# Altium schematic symbol library SCH - ARM Cortex - NXP K32W041AY.SchLib: 1 symbol
Pins are listed as number, name and electrical type; pins without a type are passive.

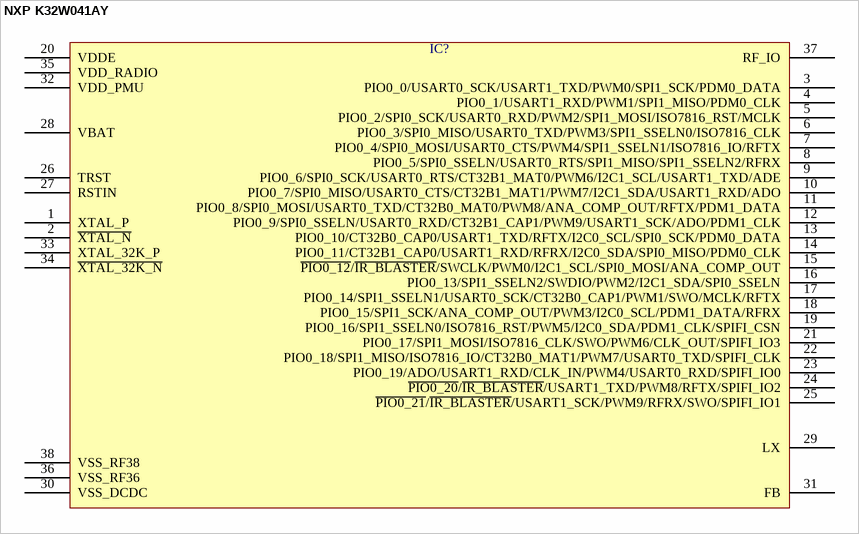
[diagram p0: symbol NXP K32W041AY]

## NXP K32W041AY
designator IC?  (value not drawn)
pins: 1 XTAL_P, 2 ~{XTAL_N}, 3 PIO0_0/USART0_SCK/USART1_TXD/PWM0/SPI1_SCK/PDM0_DATA, 4 PIO0_1/USART1_RXD/PWM1/SPI1_MISO/PDM0_CLK, 5 PIO0_2/SPI0_SCK/USART0_RXD/PWM2/SPI1_MOSI/ISO7816_RST/MCLK, 6 PIO0_3/SPI0_MISO/USART0_TXD/PWM3/SPI1_SSELN0/ISO7816_CLK, 7 PIO0_4/SPI0_MOSI/USART0_CTS/PWM4/SPI1_SSELN1/ISO7816_IO/RFTX, 8 PIO0_5/SPI0_SSELN/USART0_RTS/SPI1_MISO/SPI1_SSELN2/RFRX, 9 PIO0_6/SPI0_SCK/USART0_RTS/CT32B1_MAT0/PWM6/I2C1_SCL/USART1_TXD/ADE, 10 PIO0_7/SPI0_MISO/USART0_CTS/CT32B1_MAT1/PWM7/I2C1_SDA/USART1_RXD/ADO, 11 PIO0_8/SPI0_MOSI/USART0_TXD/CT32B0_MAT0/PWM8/ANA_COMP_OUT/RFTX/PDM1_DATA, 12 PIO0_9/SPI0_SSELN/USART0_RXD/CT32B1_CAP1/PWM9/USART1_SCK/ADO/PDM1_CLK, 13 PIO0_10/CT32B0_CAP0/USART1_TXD/RFTX/I2C0_SCL/SPI0_SCK/PDM0_DATA, 14 PIO0_11/CT32B1_CAP0/USART1_RXD/RFRX/I2C0_SDA/SPI0_MISO/PDM0_CLK, 15 ~{PIO0_12}/~{IR_BLASTER}/SWCLK/PWM0/I2C1_SCL/SPI0_MOSI/ANA_COMP_OUT, 16 PIO0_13/SPI1_SSELN2/SWDIO/PWM2/I2C1_SDA/SPI0_SSELN, 17 PIO0_14/SPI1_SSELN1/USART0_SCK/CT32B0_CAP1/PWM1/SWO/MCLK/RFTX, 18 PIO0_15/SPI1_SCK/ANA_COMP_OUT/PWM3/I2C0_SCL/PDM1_DATA/RFRX, 19 PIO0_16/SPI1_SSELN0/ISO7816_RST/PWM5/I2C0_SDA/PDM1_CLK/SPIFI_CSN, 20 VDDE, 21 PIO0_17/SPI1_MOSI/ISO7816_CLK/SWO/PWM6/CLK_OUT/SPIFI_IO3, 22 PIO0_18/SPI1_MISO/ISO7816_IO/CT32B0_MAT1/PWM7/USART0_TXD/SPIFI_CLK, 23 PIO0_19/ADO/USART1_RXD/CLK_IN/PWM4/USART0_RXD/SPIFI_IO0, 24 ~{PIO0_20}/~{IR_BLASTER}/USART1_TXD/PWM8/RFTX/SPIFI_IO2, 25 ~{PIO0_21}/~{IR_BLASTER}/USART1_SCK/PWM9/RFRX/SWO/SPIFI_IO1, 26 TRST, 27 RSTIN, 28 VBAT, 29 LX, 30 VSS_DCDC, 31 FB, 32 VDD_PMU, 33 XTAL_32K_P, 34 ~{XTAL_32K_N}, 35 VDD_RADIO, 36 VSS_RF36, 37 RF_IO, 38 VSS_RF38